# Altium integrated library example-3.IntLib: 1 symbol
Pins are listed as number, name and electrical type; pins without a type are passive.

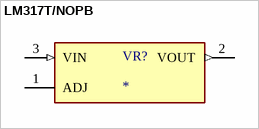
[diagram p0: symbol LM317T/NOPB]

## LM317T/NOPB
designator VR?
1.5-A, 40-V, adjustable linear voltage regulator 3-TO-220; MP: LM317T; MF: Texas Instruments; Value: *; SnapEDA_Link: https://www.snapeda.com/parts/LM317T/Texas+Instruments/view-part/?ref=snap; Purchase-URL: https://pricing.snapeda.com/search/part/LM317T/?ref=eda; Check_prices: https://www.snapeda.com/parts/LM317T/Texas+Instruments/view-part/?ref=eda; Availability: In Stock; Price: None; Package: TO-220-3 Texas Instruments
footprint TO254P1054X470X1955-3
pins: 1 ADJ, 2 VOUT (out), 3 VIN (in)